# EAGLE library part ATM90E36A (library ATM90E36)
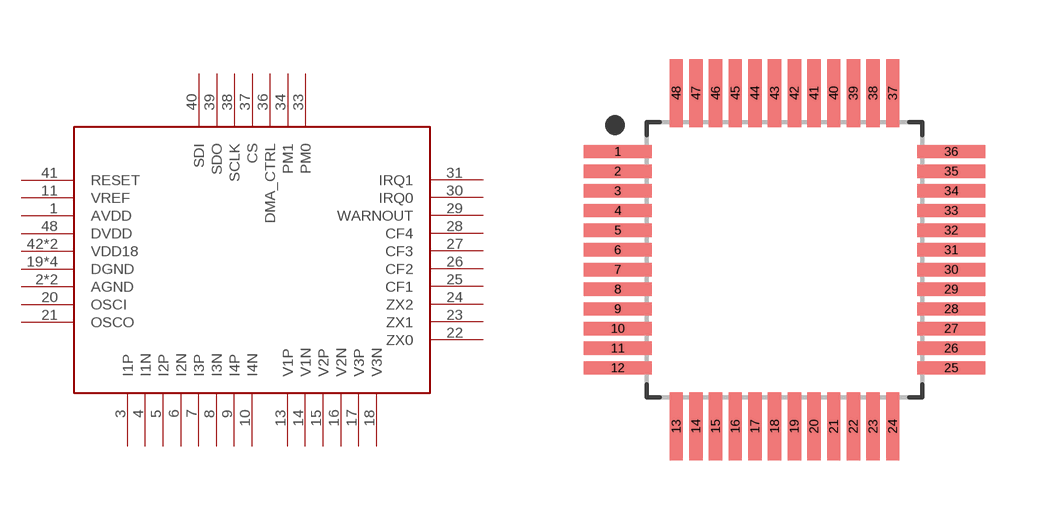
[diagram p0: symbol with the pads of QFP50P900X900X120-48; footprint QFP50P900X900X120-48]

Designator prefix -

## ATM90E36A  [QFP50P900X900X120-48]
1  AVDD
2  AGND
3  I1P
4  I1N
5  I2P
6  I2N
7  I3P
8  I3N
9  I4P
10  I4N
11  VREF
12  AGND
13  V1P
14  V1N
15  V2P
16  V2N
17  V3P
18  V3N
19  DGND
20  OSCI
21  OSCO
22  ZX0
23  ZX1
24  ZX2
25  CF1
26  CF2
27  CF3
28  CF4
29  WARNOUT
30  IRQ0
31  IRQ1
32  DGND
33  PM0
34  PM1
36  DMA_CTRL
37  CS
38  SCLK
39  SDO
40  SDI
41  RESET
42  VDD18
43  VDD18
44  DGND
47  DGND
48  DVDD

## Footprint QFP50P900X900X120-48 (pad centres in mm)
48-QFP, 0.5 mm pitch, 9 mm span, 7 X 7 X 1.2 mm body 48-pin QFP package with 0.5 mm pitch, 9 mm lead span1 X 9 mm lead span2 with body size 7 X 7 X 1.2 mm
smd 1.737 x 0.34: 1 -4.237,2.75; 2 -4.237,2.25; 3 -4.237,1.75; 4 -4.237,1.25; 5 -4.237,0.75; 6 -4.237,0.25; 7 -4.237,-0.25; 8 -4.237,-0.75; 9 -4.237,-1.25; 10 -4.237,-1.75; 11 -4.237,-2.25; 12 -4.237,-2.75; 25 4.237,-2.75; 26 4.237,-2.25; 27 4.237,-1.75; 28 4.237,-1.25; 29 4.237,-0.75; 30 4.237,-0.25; 31 4.237,0.25; 32 4.237,0.75; 33 4.237,1.25; 34 4.237,1.75; 35 4.237,2.25; 36 4.237,2.75
smd 0.34 x 1.737: 13 -2.75,-4.237; 14 -2.25,-4.237; 15 -1.75,-4.237; 16 -1.25,-4.237; 17 -0.75,-4.237; 18 -0.25,-4.237; 19 0.25,-4.237; 20 0.75,-4.237; 21 1.25,-4.237; 22 1.75,-4.237; 23 2.25,-4.237; 24 2.75,-4.237; 37 2.75,4.237; 38 2.25,4.237; 39 1.75,4.237; 40 1.25,4.237; 41 0.75,4.237; 42 0.25,4.237; 43 -0.25,4.237; 44 -0.75,4.237; 45 -1.25,4.237; 46 -1.75,4.237; 47 -2.25,4.237; 48 -2.75,4.237